# EAGLE library part LM92 (library EELE_465)
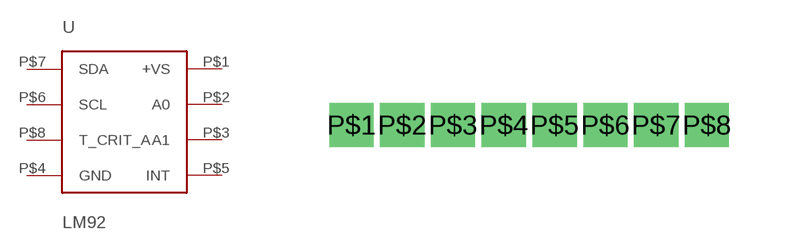
[diagram p2: symbol with the pads of LM92; footprint LM92]

Designator prefix -

## LM92  [LM92]
P$1  +VS
P$2  A0
P$3  A1
P$4  GND
P$5  INT
P$6  SCL
P$7  SDA
P$8  T_CRIT_A

## Footprint LM92 (pad centres in mm)
drill 0.6 square: P$1 0,0; P$2 1.27,0; P$3 2.54,0; P$4 3.81,0; P$5 5.08,0; P$6 6.35,0; P$7 7.62,0; P$8 8.89,0